# Altium footprint library RE_0603.PcbLib: 1 footprints
Each footprint in its own frame and in the unit in brackets; x right, y up, seen from the top. Pads: shape width x height; smd on the part's side, far side on the other; paste and mask are expansions set on the pad; w line width, h text height; cw(c..) or ccw(c..) is an arc to the next point about the centre after c.
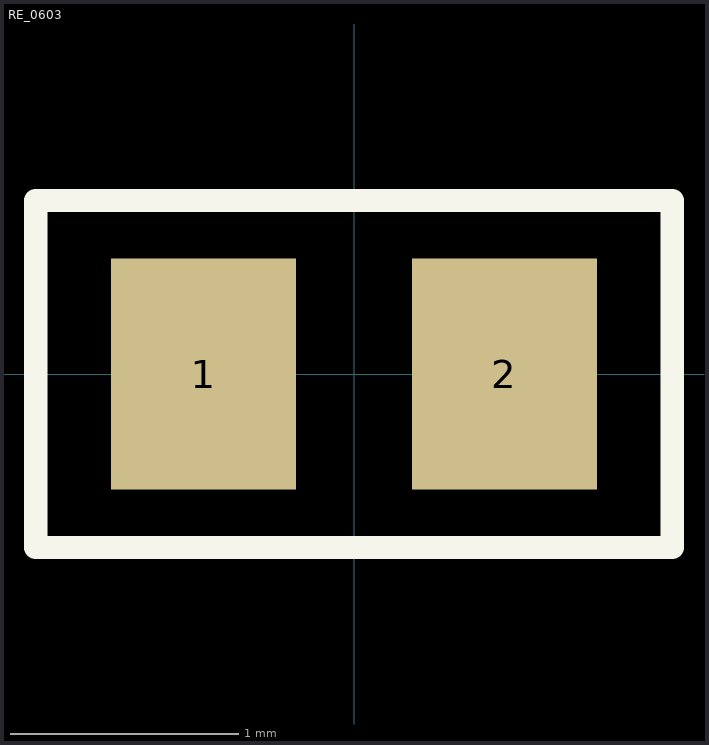
[diagram p0: the footprint, top view; thin cyan lines are the x and y axes]

## RE_0603 [mil] "RE_0603"
pads (2):
  rect 32x40 smd: 1(-26,0) 2(26,0)
Top Overlay:
  lines w4: -55,-30 -55,30 55,30 55,-30 -55,-30
3D body: height 12.49, standoff 0.6, extent -31.5,-15.75 31.5,15.75